# Altium footprint library QUAN.PcbLib: 216 footprints (part 13 of 14)
Each footprint in its own frame and in the unit in brackets; x right, y up, seen from the top. Pads: shape width x height; smd on the part's side, far side on the other; paste and mask are expansions set on the pad; w line width, h text height; cw(c..) or ccw(c..) is an arc to the next point about the centre after c.
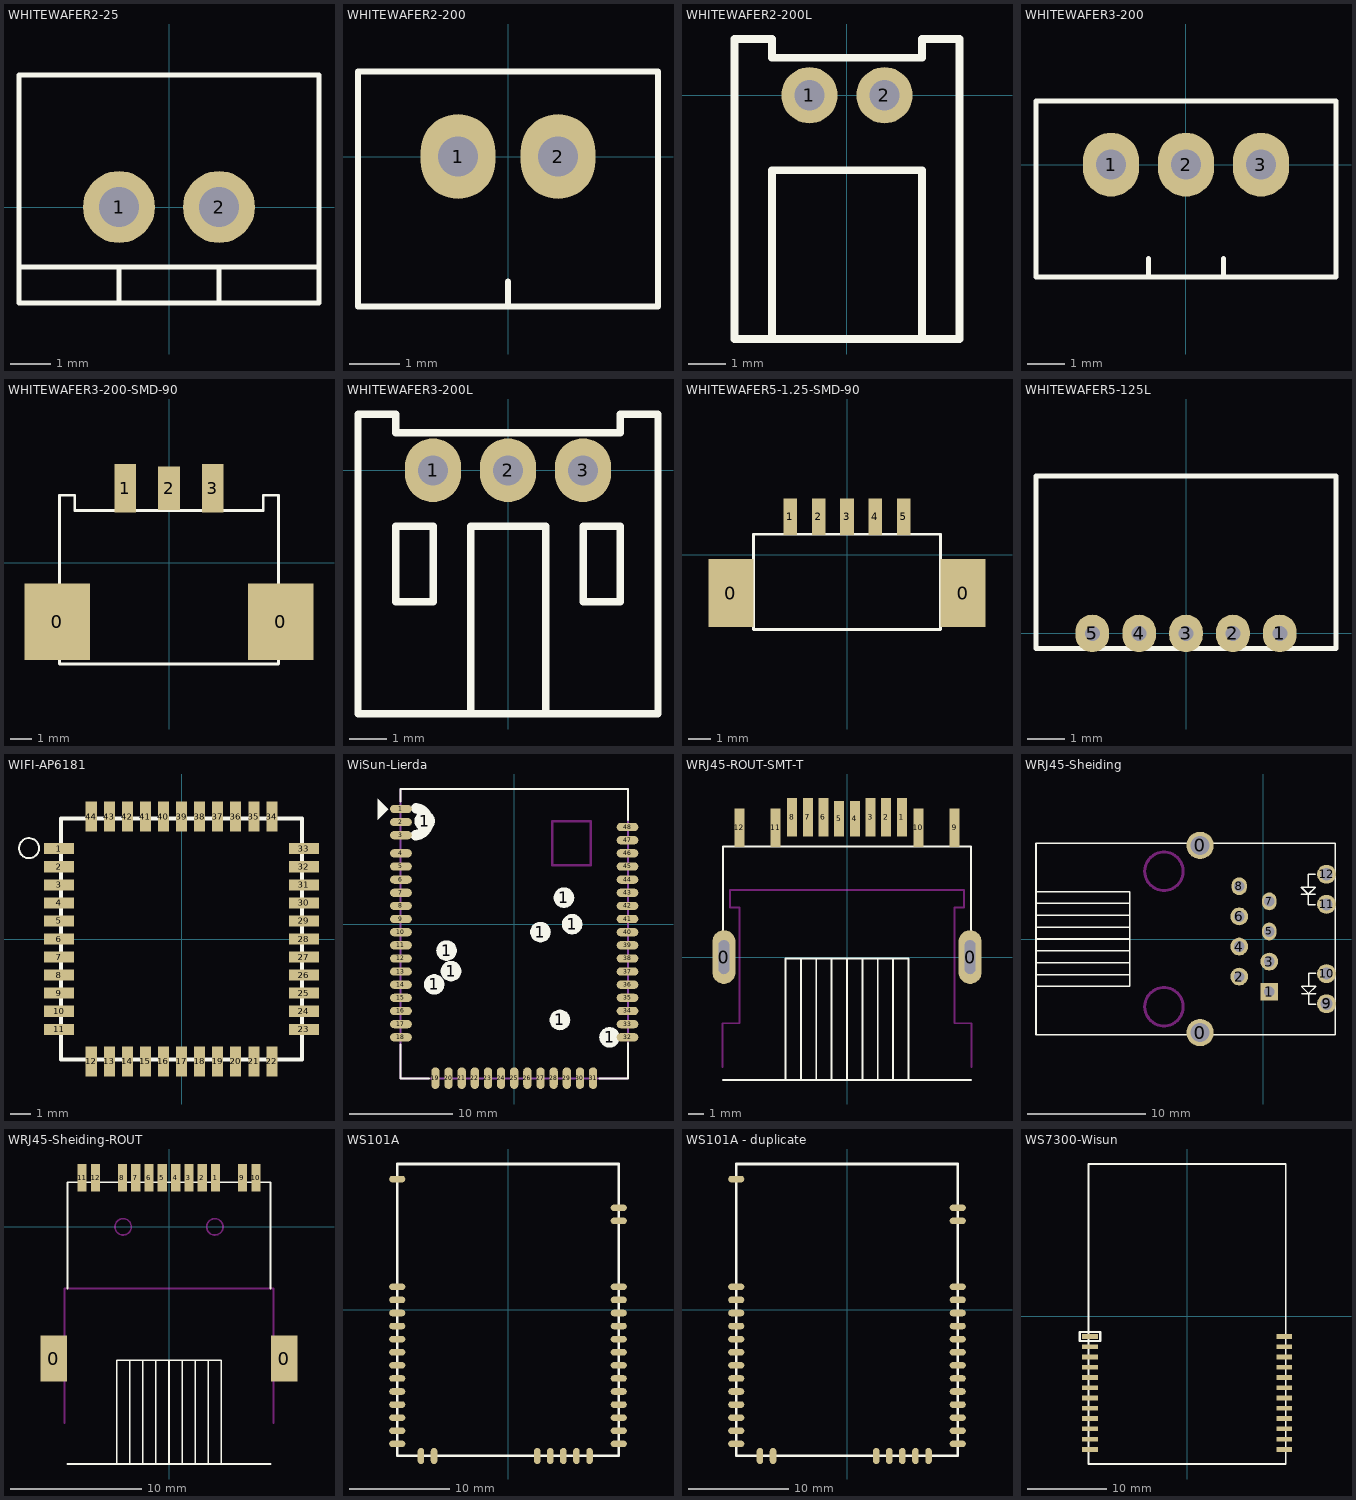
[diagram p12: the footprints below, top view; thin cyan lines are the x and y axes]

## WHITEWAFER2-25 [mm]
pads (2):
  round 1.8 hole 1: 1(-1.25,0) 2(1.25,0)
Top Overlay:
  lines w0.127: -3.75,-1.5 -1.25,-1.5 ; -1.25,-2.4 -1.25,-1.5 ; 1.25,-2.4 1.25,-1.5 ; 3.75,-1.5 -1.25,-1.5 ; -3.75,-2.4 -3.75,3.3 3.75,3.3 3.75,-2.4 -3.75,-2.4

## WHITEWAFER2-200 [mm]
pads (2):
  oval 1.5x1.7 hole 0.8: 1(-1,0) 2(1,0)
Top Overlay:
  lines w0.127: 0,-3 0,-2.5 ; -3,-3 -3,1.7 3,1.7 3,-3 -3,-3

## WHITEWAFER2-200L [mm]
pads (2):
  round 1.5 hole 0.8: 1(-1,0) 2(1,0)
Top Overlay:
  lines w0.203: -2,-6.5 -2,-2 2,-2 2,-6.5 ; -3,-6.5 3,-6.5 3,1.5 2,1.5 2,1 -2,1 -2,1.5 -3,1.5 -3,0 -3,-6.5

## WHITEWAFER3-200 [mm]
pads (3):
  oval 1.5x1.7 hole 0.8: 1(-2,0) 2(0,0) 3(2,0)
Top Overlay:
  lines w0.127: -1,-3 -1,-2.5 ; 1,-3 1,-2.5 ; -4,-3 -4,1.7 4,1.7 4,-3 -4,-3

## WHITEWAFER3-200-SMD-90 [mm] "WHITEWAFER3-200-SMD-90"
pads (5):
  rect 3x3.5 smd: 0(-5.1,-2.7) 0(5.1,-2.7)
  rect 1x2.2 smd: 1(-2,3.4) 3(2,3.4)
  rect 1x2 smd: 2(0,3.4)
Top Overlay:
  lines w0.127: -5,-4.625 -5,2.375 -5,3.075 -4.3,3.075 -4.3,2.375 4.3,2.375 4.3,3.075 5,3.075 5,2.375 5,-4.625 -5,-4.625

## WHITEWAFER3-200L [mm]
pads (3):
  oval 1.5x1.7 hole 0.8: 1(-2,0) 2(0,0) 3(2,0)
Top Overlay:
  lines w0.2: -4,-6.5 4,-6.5 4,1.5 3,1.5 3,1 -3,1 -3,1.5 -4,1.5 -4,-6.477 ; -1,-6.5 -1,-1.5 1,-1.5 1,-6.5 ; -3,-3.5 -3,-1.5 -2,-1.5 -2,-3.5 -3,-3.5 ; 2,-3.5 2,-1.5 3,-1.5 3,-3.5 2,-3.5

## WHITEWAFER5-1.25-SMD-90 [mm] "WHITEWAFER5-1.25-SMD-90"
pads (7):
  rect 2x3 smd: 0(-5.125,-1.687) 0(5.125,-1.687)
  rect 0.6x1.6 smd: 1(-2.5,1.687) 2(-1.25,1.687) 3(0,1.687) 4(1.25,1.687) 5(2.5,1.687)
Top Overlay:
  lines w0.127: -4.125,-3.288 -4.125,0.913 4.125,0.913 4.125,-3.288 -4.125,-3.288

## WHITEWAFER5-125L [mm] "WHITEWAFER5-125L"
pads (5):
  oval 0.9x1 hole 0.4: 1(2.5,0) 2(1.25,0) 3(0,0) 4(-1.25,0) 5(-2.5,0)
Top Overlay:
  lines w0.127: -4,-0.4 -4,4.2 4,4.2 4,-0.4 -4,-0.4

## WIFI-AP6181 [mm] "WIFI-AP6181"
pads (44):
  rect 1.5x0.55 smd: 1(-6.1,4.5) 2(-6.1,3.6) 3(-6.1,2.7) 4(-6.1,1.8) 5(-6.1,0.9) 6(-6.1,0) 7(-6.1,-0.9) 8(-6.1,-1.8) 9(-6.1,-2.7) 10(-6.1,-3.6) 11(-6.1,-4.5) 23(6.1,-4.5) 24(6.1,-3.6) 25(6.1,-2.7) 26(6.1,-1.8) 27(6.1,-0.9) 28(6.1,0) 29(6.1,0.9) 30(6.1,1.8) 31(6.1,2.7) 32(6.1,3.6) 33(6.1,4.5)
  rect 0.55x1.5 smd: 12(-4.5,-6.1) 13(-3.6,-6.1) 14(-2.7,-6.1) 15(-1.8,-6.1) 16(-0.9,-6.1) 17(0,-6.1) 18(0.9,-6.1) 19(1.8,-6.1) 20(2.7,-6.1) 21(3.6,-6.1) 22(4.5,-6.1) 34(4.5,6.1) 35(3.6,6.1) 36(2.7,6.1) 37(1.8,6.1) 38(0.9,6.1) 39(0,6.1) 40(-0.9,6.1) 41(-1.8,6.1) 42(-2.7,6.1) 43(-3.6,6.1) 44(-4.5,6.1)
Top Overlay:
  circle w0.1: c-7.6,4.525 r0.5
  lines w0.2: -6,-6 6,-6 6,6 -6,6 -6,-6

## WiSun-Lierda [mm]
pads (57):
  oval 2.1x0.8 smd: 1(-10.95,11.144) 2(-10.95,9.874) 3(-10.95,8.604) 4(-10.95,6.854) 5(-10.95,5.584) 6(-10.95,4.314) 7(-10.95,3.044) 8(-10.95,1.774) 9(-10.95,0.504) 10(-10.95,-0.766) 11(-10.95,-2.036) 12(-10.95,-3.306) 13(-10.95,-4.576) 14(-10.95,-5.846) 15(-10.95,-7.116) 16(-10.95,-8.386) 17(-10.95,-9.656) 18(-10.95,-10.926) 32(10.95,-10.926) 33(10.95,-9.656) 34(10.95,-8.386) 35(10.95,-7.116) 36(10.95,-5.846) 37(10.95,-4.576) 38(10.95,-3.306) 39(10.95,-2.036) 40(10.95,-0.766) 41(10.95,0.504) 42(10.95,1.774) 43(10.95,3.044) 44(10.95,4.314) 45(10.95,5.584) 46(10.95,6.854) 47(10.95,8.124) 48(10.95,9.394)
  round 2 on Top Overlay paste-10: 1(-8.65,9.974) 1(-7.732,-5.812) 1(-6.546,-2.55) 1(-6.112,-4.534) 1(2.536,-0.759) 1(4.416,-9.254) 1(4.807,2.566) 1(5.602,0) 1(9.216,-10.926)
  oval 0.8x2.1 smd: 19(-7.62,-14.876) 20(-6.35,-14.876) 21(-5.08,-14.876) 22(-3.81,-14.876) 23(-2.54,-14.876) 24(-1.27,-14.876) 25(0,-14.876) 26(1.27,-14.876) 27(2.54,-14.876) 28(3.81,-14.876) 29(5.08,-14.876) 30(6.35,-14.876) 31(7.62,-14.876)
Top Overlay:
  region: -13.204,12.131 -13.204,10.114 -12.196,11.123
  lines w0.2: -11.004,13.074 10.996,13.074 ; -11,-11.624 -11,-14.926 -8.255,-14.926 ; -11,11.871 -11,13.074 11,13.074 11,10.093 ; 8.255,-14.926 11,-14.926 11,-11.497
  lines w1: -9.514,8.615 ccw(c-9.608,9.912) -9.495,11.207
Keep-Out Layer:
  lines w0.25: 3.683,5.697 3.683,9.974 7.417,9.974 7.417,5.697 3.683,5.697
Mechanical 1:
  lines w0.2: -11,-14.926 11,-14.926 11,13.074 -11,13.074 -11,-14.926
3D body: height 3, standoff 0, extent -11,-14.926 11,13.074

## WRJ45-ROUT-SMT-T [mm] "WRJ45-ROUT-SMT-T"
pads (14):
  oval 1.5x3.5 hole 0.7 slot 2.2 at 90 deg: 0(-8,0) 0(8,0)
  rect 0.65x2.5 smd: 1(3.57,9.1) 2(2.55,9.1) 3(1.53,9.1) 6(-1.53,9.1) 7(-2.55,9.1) 8(-3.57,9.1) 9(6.99,8.4) 10(4.64,8.4) 11(-4.64,8.4) 12(-6.99,8.4)
  rect 0.65x2.3 smd: 4(0.51,9) 5(-0.51,9)
Top Overlay:
  lines w0.127: -8.05,-8 8.05,-8 ; -8.05,1.625 -8.05,7.2 8.05,7.2 8.05,1.6 ; -4,-8 -4,-0.085 4,-0.085 4,-8 ; -3,-8 -3,-0.085 ; -2,-8 -2,-0.085 ; -1,-8 -1,-0.085 ; 0,-8 0,-0.085 ; 1,-8 1,-0.085 ; 2,-8 2,-0.085 ; 3,-8 3,-0.085
Keep-Out Layer:
  lines w0.127: -8.1,-7.15 -8.1,-4.3 -7,-4.3 -7,3.225 -7.6,3.225 -7.6,4.35 7.6,4.35 7.6,3.225 7,3.225 7,-4.3 8.1,-4.3 8.1,-7.15

## WRJ45-Sheiding [mm] "WRJ45-Sheiding"
pads (14):
  round 2.3 hole 1.6: 0(-5.335,-7.9) 0(-5.335,7.9)
  rect 1.5x1.5 hole 0.9: 1(0.505,-4.445)
  round 1.5 hole 0.9: 2(-2.035,-3.175) 3(0.505,-1.905) 4(-2.035,-0.635) 6(-2.035,1.905)
  oval 1.2x1.5 hole 0.9: 5(0.505,0.635) 7(0.505,3.175)
  oval 1.3x1.5 hole 0.9: 8(-2.035,4.445)
  round 1.6 hole 1.02: 9(5.335,-5.465) 10(5.335,-2.925) 11(5.335,2.925) 12(5.335,5.465)
Top Overlay:
  lines w0.127: -19.185,-4 -11.27,-4 -11.27,4 -19.185,4 ; -19.185,-3 -11.27,-3 ; -19.185,-2 -11.27,-2 ; -19.185,-1 -11.27,-1 ; -19.185,0 -11.27,0 ; -19.185,1 -11.27,1 ; -19.185,2 -11.27,2 ; -19.185,3 -11.27,3 ; 3.2,3.775 4.4,3.775 ; 3.225,-4.6 4.425,-4.6 ; 3.8,4.375 3.8,5.475 4.4,5.475 ; 3.825,-4 3.825,-2.9 4.425,-2.9 ; 4.4,2.875 3.8,2.875 3.8,3.775 ; 4.425,-5.5 3.825,-5.5 3.825,-4.6 ; 3.8,3.775 3.2,4.375 4.4,4.375 3.8,3.775 ; 3.825,-4.6 3.225,-4 4.425,-4 3.825,-4.6 ; -19.185,-8.1 -19.185,8.1 6.085,8.1 6.085,-8.1 -19.185,-8.1
Keep-Out Layer:
  circle w0.254: c-8.385,5.715 r1.625
  circle w0.254: c-8.385,-5.715 r1.625

## WRJ45-Sheiding-ROUT [mm] "WRJ45-Sheiding-ROUT"
pads (14):
  rect 2x3.5 smd: 0(-8.8,-10.05) 0(8.8,-10.05)
  rect 0.7x2.1 smd: 1(3.56,3.75) 2(2.54,3.75) 3(1.52,3.75) 4(0.51,3.75) 5(-0.51,3.75) 6(-1.52,3.75) 7(-2.54,3.75) 8(-3.56,3.75) 9(5.61,3.75) 10(6.63,3.75) 11(-6.63,3.75) 12(-5.61,3.75)
Top Overlay:
  lines w0.127: -7.75,-18.1 7.75,-18.1 ; -7.75,-4.7 -7.75,3.4 7.75,3.4 7.75,-4.7 ; -4,-18.1 -4,-10.185 4,-10.185 4,-18.1 ; -3,-18.1 -3,-10.185 ; -2,-18.1 -2,-10.185 ; -1,-18.1 -1,-10.185 ; 0,-18.1 0,-10.185 ; 1,-18.1 1,-10.185 ; 2,-18.1 2,-10.185 ; 3,-18.1 3,-10.185
Keep-Out Layer:
  circle w0.127: c-3.5,0 r0.625
  circle w0.127: c3.5,0 r0.625
  lines w0.127: -7.975,-15 -7.975,-4.7 7.975,-4.7 7.975,-15

## WS101A [mm] "Vertexcom"
pads (36):
  oval 1.6x0.65 smd: 1(-11,13) 2(-11,2.3) 3(-11,1) 4(-11,-0.3) 5(-11,-1.6) 6(-11,-2.9) 7(-11,-4.2) 8(-11,-5.5) 9(-11,-6.8) 10(-11,-8.1) 11(-11,-9.4) 12(-11,-10.7) 13(-11,-12) 14(-11,-13.3) 22(11,-13.3) 23(11,-12) 24(11,-10.7) 25(11,-9.4) 26(11,-8.1) 27(11,-6.8) 28(11,-5.5) 29(11,-4.2) 30(11,-2.9) 31(11,-1.6) 32(11,-0.3) 33(11,1) 34(11,2.3) 35(11,8.85) 36(11,10.15)
  oval 0.65x1.6 smd: 15(-8.65,-14.5) 16(-7.35,-14.5) 17(2.9,-14.5) 18(4.2,-14.5) 19(5.5,-14.5) 20(6.8,-14.5) 21(8.1,-14.5)
Top Overlay:
  lines w0.254: -11,-14.5 -11,14.5 11,14.5 11,-14.5 -11,-14.5

## WS101A - duplicate [mm] "Vertexcom"
height 0.55
pads (36):
  oval 1.6x0.65 smd: 1(-11,13) 2(-11,2.3) 3(-11,1) 4(-11,-0.3) 5(-11,-1.6) 6(-11,-2.9) 7(-11,-4.2) 8(-11,-5.5) 9(-11,-6.8) 10(-11,-8.1) 11(-11,-9.4) 12(-11,-10.7) 13(-11,-12) 14(-11,-13.3) 22(11,-13.3) 23(11,-12) 24(11,-10.7) 25(11,-9.4) 26(11,-8.1) 27(11,-6.8) 28(11,-5.5) 29(11,-4.2) 30(11,-2.9) 31(11,-1.6) 32(11,-0.3) 33(11,1) 34(11,2.3) 35(11,8.85) 36(11,10.15)
  oval 0.65x1.6 smd: 15(-8.65,-14.5) 16(-7.35,-14.5) 17(2.9,-14.5) 18(4.2,-14.5) 19(5.5,-14.5) 20(6.8,-14.5) 21(8.1,-14.5)
Top Overlay:
  lines w0.254: -11,-14.5 11,-14.5 11,14.5 -11,14.5 -11,-14.5

## WS7300-Wisun [mm] "WS7300-Wisun"
pads (24):
  rect 2x0.6 smd mask+0.102: 1(-12.3,-2.564) 2(-12.3,-3.864) 3(-12.3,-5.164) 4(-12.3,-6.464) 5(-12.3,-7.764) 6(-12.3,-9.064) 7(-12.3,-10.364) 8(-12.3,-11.664) 9(-12.3,-12.964) 10(-12.3,-14.264) 11(-12.3,-15.564) 12(-12.3,-16.864) 13(12.3,-16.864) 14(12.3,-15.564) 15(12.3,-14.264) 16(12.3,-12.964) 17(12.3,-11.664) 18(12.3,-10.364) 19(12.3,-9.064) 20(12.3,-7.764) 21(12.3,-6.464) 22(12.3,-5.164) 23(12.3,-3.864) 24(12.3,-2.564)
Top Overlay:
  lines w0.2: -12.5,-18.714 12.5,-18.714 12.5,19.286 -12.5,19.286 -12.5,-18.714
  lines w0.3: -13.6,-2.014 -13.6,-3.139 -11,-3.139 -11,-1.989 -13.6,-1.989